# Altium schematic symbol library IRsensor_Relay_Controller_2.SchLib: 9 symbols
Pins are listed as number, name and electrical type; pins without a type are passive.

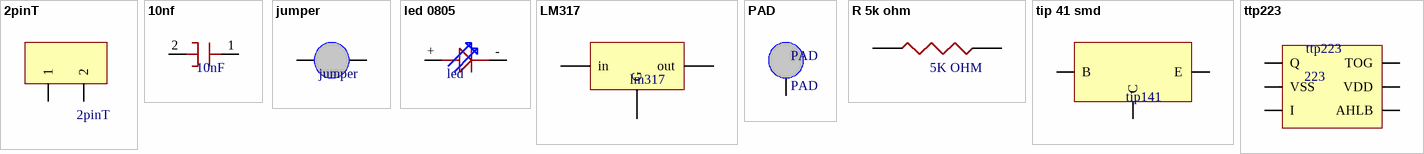
[diagram p0: symbols 2pinT to ttp223]

## 2pinT
designator 2pinT
Conn Shrouded Header HDR 3 POS 2mm Solder ST Thru-Hole Bag; Manufacturer: TE Connectivity; Manufacturer Part Number: 292161-3; Body Material: Nylon; Shape: Rectangular; Gender: Male; Number of Contacts: 3; Connector Type: Header,Pin; Current Rating: 4A; Voltage Rating: 125V; Contact Resistance: 20mR; PCB Mounting Orientation: Vertical; Connector System: Wire-to-Board; PCB Mount Alignment: No (Without); PCB Mount Retention: With; Contact Retention: Yes (With); Wire/Cable Type: Discrete; Contact Style: Straight; Plating Thickness: 2um; PCB Thickness: 0.8mm; Wire/Cable Gauge: 22AWG; Tail Length: 3.2mm; Approvals: CSA; Supplier 1: Digi-Key; RoHS: Yes; Category: Connectors; Stock 1: 15961; Pricing 1: 1=0.58000, 10=0.54600, 100=0.41840, 500=0.36386, 1000=0.30019, 5000=0.26380, 10000=0.24561 (USD); Mount: Through Hole; Contact Plating: Tin; Contact Material: Brass; Housing Material: Nylon; Color: Natural; Housing Color: Natural; Material: Nylon; Contact Shape: Round; Min Operating Temperature: -40°C; Max Operating Temperature: 105°C; Packaging: Bag; Package Quantity: 1000; Termination: Solder; Series: AMP CT; Number of Positions: 3; Number of Rows: 1; Orientation: Straight; Contact Type: Male Pin; Max Voltage Rating (AC): 125V; Contact Gender: Male; Sealable: No (Without); Max Voltage Rating (DC): 125V; Mating Alignment: No (Without); Mating Retention: No (Without); Contact Current Rating: 4A; Strain Relief: No (Without); Backwall/Post Interruptions: No (Without); Length: 7.8mm; Width: 3.6mm; Height: 0.267inch; Pitch: 2mm; Depth: 3.6mm; Contact Mating Length: 0.177inch; Radiation Hardening: No; RoHS Compliant: Yes; REACH SVHC: No SVHC; Lead Free: Lead Free; Flammability Rating: UL94 V-0; ELV: Compliant; ComponentLink1URL: https://datasheet.ciiva.com/11748/0900766b80d9a5ae-11748515.pdf?src-supplier=RSComponents; ComponentLink1Description: https://datasheet.ciiva.com/11748/0900766b80d9a5ae-11748515.pdf?src-supplier=RSComponents; ComponentLink2URL: https://datasheet.ciiva.com/16305/eng-ds-1-1773455-8-ct-connector-series-qrg-0909-16305140.pdf?src-supplier=Future+Electronics; ComponentLink2Description: https://datasheet.ciiva.com/16305/eng-ds-1-1773455-8-ct-connector-series-qrg-0909-16305140.pdf?src-supplier=Future+Electronics; ComponentLink3URL: https://datasheet.ciiva.com/15175/getdatasheetpartid-47316-15175798.pdf?src-supplier=Verical; ComponentLink3Description: https://datasheet.ciiva.com/15175/getdatasheetpartid-47316-15175798.pdf?src-supplier=Verical; ComponentLink4URL: https://datasheet.ciiva.com/727/eng-cd-292161-p-727239.pdf?src-supplier=Digi-Key; ComponentLink4Description: https://datasheet.ciiva.com/727/eng-cd-292161-p-727239.pdf?src-supplier=Digi-Key; ComponentLink5URL: https://datasheet.ciiva.com/30098/eng-ds-1-1773455-8-ct-connector-series-qrg-0909-30098311.pdf?src-supplier=Onlinecomponents.com; ComponentLink5Description: https://datasheet.ciiva.com/30098/eng-ds-1-1773455-8-ct-connector-series-qrg-0909-30098311.pdf?src-supplier=Onlinecomponents.com; ComponentLink6URL: https://datasheet.ciiva.com/3118/eng-ds-1-1773455-8-ct-connector-series-qrg-0909-3118139.pdf?src-supplier=Avnet; ComponentLink6Description: https://datasheet.ciiva.com/3118/eng-ds-1-1773455-8-ct-connector-series-qrg-0909-3118139.pdf?src-supplier=Avnet; ComponentLink7URL: https://datasheet.ciiva.com/7703/1631402-7703259.pdf?src-supplier=Element14; ComponentLink7Description: https://datasheet.ciiva.com/7703/1631402-7703259.pdf?src-supplier=Element14; ComponentLink8URL: https://datasheet.ciiva.com/14155/292161-x-eng-tds-14155660.pdf?src-supplier=Distrelec; ComponentLink8Description: https://datasheet.ciiva.com/14155/292161-x-eng-tds-14155660.pdf?src-supplier=Distrelec; ComponentLink9URL: https://datasheet.ciiva.com/16656/eng-ds-1-1773455-8-ct-connector-series-qrg-0909-16656284.pdf?src-supplier=Avnet+Europe; ComponentLink9Description: https://datasheet.ciiva.com/16656/eng-ds-1-1773455-8-ct-connector-series-qrg-0909-16656284.pdf?src-supplier=Avnet+Europe; Supplier Part Number 1: A98589-ND
footprint 2 pin terminal
pins: 1, 2

## 10nf
designator 10nF, comment 10nF
Cap Aluminum 10uF 25V 20% (5 X 5.8mm) SMD 28mA 5000 hr 105C T/R; Manufacturer: Panasonic; Manufacturer Part Number: EEE-HD1E100AR; Dielectric Material: Aluminium; ESR (Equivalent Series Resistance): 7.2R; Life (Hours): 5000Hour; Leakage Current: 3uA; Dissipation Factor: 0.16%; Supplier 1: Digi-Key; RoHS: Yes; Category: Aluminum Electrolytic Capacitors; Stock 1: 33; Pricing 1: 1=0.52000, 10=0.36000, 50=0.25200, 100=0.21600, 500=0.16198 (USD); Mount: Surface Mount,PCB; Case/Package: Radial; Number of Pins: 2; Min Operating Temperature: -40°C; Max Operating Temperature: 105°C; Capacitance: 10uF; Packaging: Tape and Reel; Ripple Current: 28mA; Tolerance: 20%; Package Quantity: 1000; Voltage Rating: 25V; Voltage Rating (DC): 25V; Ripple Current (AC): 28mA; Impedance: 7.2R; Termination: SMD/SMT; Voltage: 25V; Features: General Purpose; Series: HD; Construction: Cylindrical; Diameter: 5mm; Length: 5.5mm; Height: 5.8mm; Height - Seated (Max): 0.228inch; Lead Pitch: 1.5mm; Radiation Hardening: No; REACH SVHC: No SVHC; Lead Free: Lead Free; RoHS Compliant: Yes; ComponentLink1URL: https://datasheet.ciiva.com/11778/0900766b80bee783-11778282.pdf?src-supplier=RSComponents; ComponentLink1Description: https://datasheet.ciiva.com/11778/0900766b80bee783-11778282.pdf?src-supplier=RSComponents; ComponentLink2URL: https://datasheet.ciiva.com/2985/aba0000ce100-2985956.pdf?src-supplier=Avnet; ComponentLink2Description: https://datasheet.ciiva.com/2985/aba0000ce100-2985956.pdf?src-supplier=Avnet; ComponentLink3URL: https://datasheet.ciiva.com/46378/370269-46378072.pdf?src-supplier=Element14; ComponentLink3Description: https://datasheet.ciiva.com/46378/370269-46378072.pdf?src-supplier=Element14; ComponentLink4URL: https://datasheet.ciiva.com/16393/aba0000ce100-16393097.pdf?src-supplier=Future+Electronics; ComponentLink4Description: https://datasheet.ciiva.com/16393/aba0000ce100-16393097.pdf?src-supplier=Future+Electronics; ComponentLink5URL: https://datasheet.ciiva.com/46390/370269-46390181.pdf?src-supplier=Element14; ComponentLink5Description: https://datasheet.ciiva.com/46390/370269-46390181.pdf?src-supplier=Element14; ComponentLink6URL: https://datasheet.ciiva.com/14599/70068285-14599209.pdf?src-supplier=Allied+Electronics; ComponentLink6Description: https://datasheet.ciiva.com/14599/70068285-14599209.pdf?src-supplier=Allied+Electronics; ComponentLink7URL: https://datasheet.ciiva.com/2985/aba0000ce100-2985955.pdf?src-supplier=Avnet; ComponentLink7Description: https://datasheet.ciiva.com/2985/aba0000ce100-2985955.pdf?src-supplier=Avnet; ComponentLink8URL: https://datasheet.ciiva.com/30161/43aba0000ce100-30161286.pdf?src-supplier=Onlinecomponents.com; ComponentLink8Description: https://datasheet.ciiva.com/30161/43aba0000ce100-30161286.pdf?src-supplier=Onlinecomponents.com; ComponentLink9URL: https://datasheet.ciiva.com/6121/370269-6121255.pdf?src-supplier=Farnell; ComponentLink9Description: https://datasheet.ciiva.com/6121/370269-6121255.pdf?src-supplier=Farnell; ComponentLink10URL: https://datasheet.ciiva.com/14605/70068285-14605031.pdf?src-supplier=Allied+Electronics; ComponentLink10Description: https://datasheet.ciiva.com/14605/70068285-14605031.pdf?src-supplier=Allied+Electronics; ComponentLink11URL: https://datasheet.ciiva.com/17536/aba0000ce100-17536783.pdf?src-supplier=Avnet+Europe; ComponentLink11Description: https://datasheet.ciiva.com/17536/aba0000ce100-17536783.pdf?src-supplier=Avnet+Europe; Supplier Part Number 1: PCE4956CT-ND
footprint Capacitor
pins: 1 +, 2 -

## jumper
designator jumper
MOLEX - 90121-0766 - Pin Header, Wire-to-Board, 2.54 mm, 1 Rows, 6 Contacts, Through Hole Right Angle; Gender: Male; Number of Contacts: 6; Current Rating: 3A; Voltage Rating: 350V; Insulation Resistance: 5GR; Contact Resistance: 20mR; Number of Circuits: 5; Pitch: 2.54mm; Contact Post Length: 2.9mm; Glow Wire Compliant: Non-compliant; Supplier 1: Digi-Key; Manufacturer: Molex; Manufacturer Part Number: 90121-0766; RoHS: Yes; Category: Headers and Wire Housings; Stock 1: 4548; Pricing 1: 1=1.30000, 10=1.07300, 100=0.89390, 1000=0.71513, 5000=0.62574, 10000=0.59445 (USD); Mount: Through Hole; Contact Plating: Gold; Contact Material: Brass; Housing Material: Polyester; Color: Black; Housing Color: Black; Material: Glass,Polyester; Min Operating Temperature: -55°C; Max Operating Temperature: 125°C; Package Quantity: 1800; Packaging: Tray; Termination: Solder; Series: C-Grid III; Number of Positions: 6; Number of Rows: 1; Orientation: Right Angle; Contact Gender: Male; Voltage Rating (AC): 350V; Voltage Rating (DC): 350V; Number of Poles: 6; Working Voltage: 350V; Contact Mating Length: 6.75mm; Lead Pitch: 2.54mm; Radiation Hardening: No; RoHS Compliant: Yes; REACH SVHC: Unknown; Lead Free: Lead Free; Halogen Free: Not Halogen Free; ComponentLink1URL: https://datasheet.ciiva.com/11748/0900766b8002f26b-11748706.pdf?src-supplier=RSComponents; ComponentLink1Description: https://datasheet.ciiva.com/11748/0900766b8002f26b-11748706.pdf?src-supplier=RSComponents; ComponentLink2URL: https://datasheet.ciiva.com/10085/0901210766-pcb-headers-10085142.pdf?src-supplier=Avnet; ComponentLink2Description: https://datasheet.ciiva.com/10085/0901210766-pcb-headers-10085142.pdf?src-supplier=Avnet; ComponentLink3URL: https://datasheet.ciiva.com/5148/0901210766-pcb-headers-153060-5148972.pdf?src-supplier=Mouser; ComponentLink3Description: https://datasheet.ciiva.com/5148/0901210766-pcb-headers-153060-5148972.pdf?src-supplier=Mouser; ComponentLink4URL: https://datasheet.ciiva.com/30052/0901210766-pcb-headers-30052412.pdf?src-supplier=Onlinecomponents.com; ComponentLink4Description: https://datasheet.ciiva.com/30052/0901210766-pcb-headers-30052412.pdf?src-supplier=Onlinecomponents.com; ComponentLink5URL: https://datasheet.ciiva.com/46431/1710412-46431802.pdf?src-supplier=Element14; ComponentLink5Description: https://datasheet.ciiva.com/46431/1710412-46431802.pdf?src-supplier=Element14; ComponentLink6URL: https://datasheet.ciiva.com/16733/0901210766-pcb-headers-16733135.pdf?src-supplier=Avnet+Europe; ComponentLink6Description: https://datasheet.ciiva.com/16733/0901210766-pcb-headers-16733135.pdf?src-supplier=Avnet+Europe; Supplier Part Number 1: WM8112-ND
footprint jumper
pins: 1, 2

## led 0805
designator led, comment led
WURTH ELEKTRONIK - 150060BS75000 - LED, Blau, Oberflächenmontage, 603, 30 mA, 3.2 V, 470 nm; Manufacturer: Wurth Electronics; Luminous Intensity: 145mcd; Forward Current: 30mA; Forward Voltage: 3.2V; Viewing Angle: 140°; Lens Style: Clear,Rectangular; Dominant Wavelength: 470nm; Test Current: 20mA; Supplier 1: Digi-Key; Manufacturer Part Number: 150060BS75000; RoHS: Yes; Category: LEDs; Stock 1: 44811; Pricing 1: 1=0.16000, 50=0.14500, 100=0.12500, 500=0.10800 (USD); Mount: Surface Mount; Case/Package: 0603; Color: Blue; Case Code (Metric): 1608; Case Code (Imperial): 0603; Min Operating Temperature: -40°C; Max Operating Temperature: 85°C; Packaging: Cut Tape; Package Quantity: 4000; Wavelength: 470nm; Length: 1.6mm; Width: 0.8mm; Height: 0.7mm; RoHS Compliant: Yes; REACH SVHC: Unknown; ComponentLink1URL: https://datasheet.ciiva.com/29563/150060bs75000-29563034.pdf?src-supplier=Digi-Key; ComponentLink1Description: https://datasheet.ciiva.com/29563/150060bs75000-29563034.pdf?src-supplier=Digi-Key; ComponentLink2URL: https://datasheet.ciiva.com/29279/759426-da-01-en-chipled-0603-w-kl-blau-150060bs75000-29279193.pdf?src-supplier=Conrad; ComponentLink2Description: https://datasheet.ciiva.com/29279/759426-da-01-en-chipled-0603-w-kl-blau-150060bs75000-29279193.pdf?src-supplier=Conrad; ComponentLink3URL: https://datasheet.ciiva.com/48430/150060bs75000-eng-tds-48430039.pdf?src-supplier=Distrelec; ComponentLink3Description: https://datasheet.ciiva.com/48430/150060bs75000-eng-tds-48430039.pdf?src-supplier=Distrelec; ComponentLink4URL: https://datasheet.ciiva.com/22656/1911343-22656939.pdf?src-supplier=Element14; ComponentLink4Description: https://datasheet.ciiva.com/22656/1911343-22656939.pdf?src-supplier=Element14; ComponentLink5URL: https://datasheet.ciiva.com/29563/150060bs75000-29563035.pdf?src-supplier=Digi-Key; ComponentLink5Description: https://datasheet.ciiva.com/29563/150060bs75000-29563035.pdf?src-supplier=Digi-Key; ComponentLink6URL: https://datasheet.ciiva.com/29563/150060bs75000-29563036.pdf?src-supplier=Digi-Key; ComponentLink6Description: https://datasheet.ciiva.com/29563/150060bs75000-29563036.pdf?src-supplier=Digi-Key; Supplier Part Number 1: 732-4966-1-ND
footprint LED 0805
pins: +, -

## LM317
designator lm317, comment lm317
LDO Regulator Pos 1.2V to 37V 0.5A 3-Pin(2+Tab) TO-252 T/R; Manufacturer: TI National Semiconductor; Manufacturer Part Number: LM317AMDTX; Number of Outputs: 1; Min Input Voltage: 4.2V; Max Input Voltage: 40V; Output Current: 500mA; Polarity: Positive; Output Type: Adjustable; Reference Voltage: 1.262V; Quiescent Current: 60uA; Accuracy: 1%; Supplier 1: Arrow Electronics; RoHS: No; Category: Voltage Regulators - Linear; Stock 1: 5; Pricing 1: 1=2.61410, 2500=2.04250, 5000=2.02490, 10000=2.00730, 15000=1.98960, 20000=1.97190, 25000=1.95420, 30000=1.93630, 40000=1.91850, 50000=1.90060 (USD); Mount: Surface Mount; Case/Package: TO-252; Number of Pins: 3; Min Operating Temperature: -40°C; Max Operating Temperature: 125°C; Packaging: Tape and Reel; Output Voltage: 37V; Package Quantity: 2500; Max Output Current: 500mA; Number of Regulators: 1; Series: -; Output Voltage Accuracy: 1%; Min Current Limit: 500mA; Radiation Hardening: No; Lead Free: Contains Lead; RoHS Compliant: No; ComponentLink1URL: https://datasheet.ciiva.com/6583/lm117-6583744.pdf?src-supplier=Digi-Key; ComponentLink1Description: https://datasheet.ciiva.com/6583/lm117-6583744.pdf?src-supplier=Digi-Key; ComponentLink2URL: https://datasheet.ciiva.com/6583/lm117-6583742.pdf?src-supplier=Digi-Key; ComponentLink2Description: https://datasheet.ciiva.com/6583/lm117-6583742.pdf?src-supplier=Digi-Key; ComponentLink3URL: https://datasheet.ciiva.com/6583/lm117-6583740.pdf?src-supplier=Digi-Key; ComponentLink3Description: https://datasheet.ciiva.com/6583/lm117-6583740.pdf?src-supplier=Digi-Key; Supplier Part Number 1: LM317AMDTX
footprint LM317 SMD
pins: G, in, out

## PAD
designator PAD
Conn Power PL 2 POS Solder RA Thru-Hole 3 Terminal 1 Port Bulk; Manufacturer: Switchcraft; Manufacturer Part Number: RAPC712X; Number of Terminals/Pins: 3; Body Material: Thermoplastic; Gender: Male; Number of Contacts: 2; Connector Type: Jack,Power; Current Rating: 5A; Insulation Resistance: 30MR; Number of Ports: 1; Shielding: Unshielded; Pin Diameter: 2.5mm; Supplier 1: Digi-Key; RoHS: Yes; Category: Connectors; Stock 1: 37309; Pricing 1: 1=1.81000, 10=1.64600, 25=1.54560, 50=1.47840, 100=1.41120, 250=1.27680, 500=1.17600, 1000=1.05000 (USD); Mount: Through Hole,PCB,Panel; Number of Pins: 3; Contact Plating: Nickel; Contact Material: Brass; Housing Material: Thermoplastic; Color: Black; Housing Color: Black; Packaging: Bulk; Package Quantity: 2500; Termination: Solder; Series: RAPC; Orientation: Right Angle; Max Current Rating: 5A; Contact Gender: Female; Primary Type: POWER; Length: 9mm; Depth: 14.5mm; RoHS Compliant: Yes; REACH SVHC: No SVHC; Lead Free: Lead Free; Flammability Rating: UL94 V-0; ComponentLink1URL: https://datasheet.ciiva.com/15173/getdatasheetpartid-110865-15173793.pdf?src-supplier=Verical; ComponentLink1Description: https://datasheet.ciiva.com/15173/getdatasheetpartid-110865-15173793.pdf?src-supplier=Verical; ComponentLink2URL: https://datasheet.ciiva.com/391/rapc712x-cd-391666.pdf?src-supplier=Digi-Key; ComponentLink2Description: https://datasheet.ciiva.com/391/rapc712x-cd-391666.pdf?src-supplier=Digi-Key; Supplier Part Number 1: SC237-ND
footprint PAD
pins: 1

## R 5k ohm
designator 5K OHM, comment 5K OHM
Res SMD 5K Ohm 0.02% 0.3W 0805; Manufacturer: VPG Foil Resistors; Manufacturer Part Number: Y40625K00000Q0R; Resistance: 5kR; Max Power Dissipation: 300mW; Temperature Coefficient: 2.5ppm/°C; Supplier 1: Digi-Key; RoHS: No; Category: Chip SMD Resistors; Stock 1: 116; Pricing 1: 1=20.65000, 10=18.04400, 25=16.30480 (USD); Case/Package: 0805; Case Code (Metric): 2012; Case Code (Imperial): 0805; Min Operating Temperature: -55°C; Max Operating Temperature: 200°C; Package Quantity: 1; Tolerance: 0.02%; Packaging: Tape and Reel; Resistor Type: Metal Foil; Number of Terminations: 2; Features: Moisture Resistant; Series: FRSH; Length: 0.08inch; Width: 0.05inch; Height: 0.025inch; RoHS Compliant: No; ComponentLink1URL: https://datasheet.ciiva.com/2629/frsh-z-2629522.pdf?src-supplier=Digi-Key; ComponentLink1Description: https://datasheet.ciiva.com/2629/frsh-z-2629522.pdf?src-supplier=Digi-Key; ComponentLink2URL: https://datasheet.ciiva.com/2629/frsh-z-2629523.pdf?src-supplier=Digi-Key; ComponentLink2Description: https://datasheet.ciiva.com/2629/frsh-z-2629523.pdf?src-supplier=Digi-Key; ComponentLink3URL: https://datasheet.ciiva.com/2629/frsh-z-2629524.pdf?src-supplier=Digi-Key; ComponentLink3Description: https://datasheet.ciiva.com/2629/frsh-z-2629524.pdf?src-supplier=Digi-Key; Supplier Part Number 1: Y4062-5.0KACT-ND
footprint 5.7kom 1206 smd
pins: 1, 2

## tip 41 smd
designator tip141, comment tip141
ON SEMICONDUCTOR - 2N6490G - Bipolar (BJT) Single Transistor, General Purpose, PNP, 60 V, 5 MHz, 1.8 W, -15 A, 5 hFE; Collector Emitter Voltage (VCEO): 60V; Max Power Dissipation: 1.8W; Max Collector Current: 15A; Collector Base Voltage (VCBO): 70V; Emitter Base Voltage (VEBO): 5V; Collector Emitter Saturation Voltage: 3.5V; Collector Emitter Breakdown Voltage: 100V; Number of Elements: 1; hFE Min: 20; Transition Frequency: 5MHz; Supplier 1: Digi-Key; Manufacturer: ON Semiconductor; Manufacturer Part Number: 2N6490G; RoHS: Yes; Category: BJTs; Stock 1: 485; Pricing 1: 1=1.36000, 10=1.21600, 25=1.15400, 100=0.94790, 500=0.78304, 1000=0.68040 (USD); Case/Package: TO-220-3; Number of Pins: 3; Weight: 0.01lb; Contact Plating: Tin,Matte; Min Operating Temperature: -65°C; Max Operating Temperature: 150°C; Package Quantity: 50; Packaging: Rail/Tube; Polarity: PNP; Power Dissipation: 1.8W; Element Configuration: Single; Voltage Rating (DC): 60V; Current Rating: 15A; Collector-emitter Voltage-Max: 3.5V; Series: -; Gain Bandwidth Product: 5MHz; Frequency: 5MHz; Max Breakdown Voltage: 60V; Max Frequency: 5MHz; Length: 10.28mm; Width: 4.82mm; Height: 15.75mm; Radiation Hardening: No; REACH SVHC: No SVHC; Lead Free: Lead Free; RoHS Compliant: Yes; ComponentLink1URL: https://datasheet.ciiva.com/7972/79212-7972193.pdf?src-supplier=Element14; ComponentLink1Description: https://datasheet.ciiva.com/7972/79212-7972193.pdf?src-supplier=Element14; ComponentLink2URL: https://datasheet.ciiva.com/4722/2n6487-d-40449-4722610.pdf?src-supplier=Mouser; ComponentLink2Description: https://datasheet.ciiva.com/4722/2n6487-d-40449-4722610.pdf?src-supplier=Mouser; ComponentLink3URL: https://datasheet.ciiva.com/15139/getdatasheetpartid-202543-15139756.pdf?src-supplier=Verical; ComponentLink3Description: https://datasheet.ciiva.com/15139/getdatasheetpartid-202543-15139756.pdf?src-supplier=Verical; ComponentLink4URL: https://datasheet.ciiva.com/1260/1748116-1260671.pdf?src-supplier=Newark; ComponentLink4Description: https://datasheet.ciiva.com/1260/1748116-1260671.pdf?src-supplier=Newark; ComponentLink5URL: https://datasheet.ciiva.com/6359/2n6487-d-6359001.pdf?src-supplier=Digi-Key; ComponentLink5Description: https://datasheet.ciiva.com/6359/2n6487-d-6359001.pdf?src-supplier=Digi-Key; ComponentLink6URL: https://datasheet.ciiva.com/11204/2n6487-d-11204092.pdf?src-supplier=Avnet; ComponentLink6Description: https://datasheet.ciiva.com/11204/2n6487-d-11204092.pdf?src-supplier=Avnet; Supplier Part Number 1: 2N6490GOS-ND
footprint tip41
pins: B, C, E

## ttp223
designator ttp223, comment 223  Supplier Part Number 1: ttp223
IC REG LINEAR 2.5V/1.8V 6TDFN; Manufacturer: Maxim; Manufacturer Part Number: MAX8530ETTP2+T; Max Power Dissipation: 1.951W; Dropout Voltage: 100mV; Max Input Voltage: 6.5V; Output Voltage: 1.8V; Output Current: 150mA; Number of Outputs: 2; Min Input Voltage: 2.5V; Min Current Limit: 165mA; Polarity: Positive; Reference Voltage: 1.25V; Accuracy: 1%; Output Type: Fixed; Supplier 1: Digi-Key; RoHS: Yes; Category: Voltage Regulators - Linear; Stock 1: 2399; Pricing 1: 1=2.10000, 10=1.89100, 25=1.78360, 100=1.51950, 250=1.42680, 500=1.24844, 1000=1.23000 (USD); Mount: Surface Mount; Case/Package: DFN; Min Operating Temperature: -40°C; Max Operating Temperature: 85°C; Package Quantity: 1; Packaging: Tape and Reel; Series: -; Number of Regulators: 2; RoHS Compliant: Yes; Lead Free: Lead Free; ComponentLink1URL: https://datasheet.ciiva.com/2050/max8530-max8531-2050868.pdf?src-supplier=Digi-Key; ComponentLink1Description: https://datasheet.ciiva.com/2050/max8530-max8531-2050868.pdf?src-supplier=Digi-Key; ComponentLink2URL: https://datasheet.ciiva.com/2050/max8530-max8531-2050866.pdf?src-supplier=Digi-Key; ComponentLink2Description: https://datasheet.ciiva.com/2050/max8530-max8531-2050866.pdf?src-supplier=Digi-Key; ComponentLink3URL: https://datasheet.ciiva.com/2050/max8530-max8531-2050867.pdf?src-supplier=Digi-Key; ComponentLink3Description: https://datasheet.ciiva.com/2050/max8530-max8531-2050867.pdf?src-supplier=Digi-Key
footprint ttp223
pins: AHLB, I, Q, TOG, VDD, VSS